# EAGLE library part DC/DC_ISOLATED_RC_TRIM (library Public)
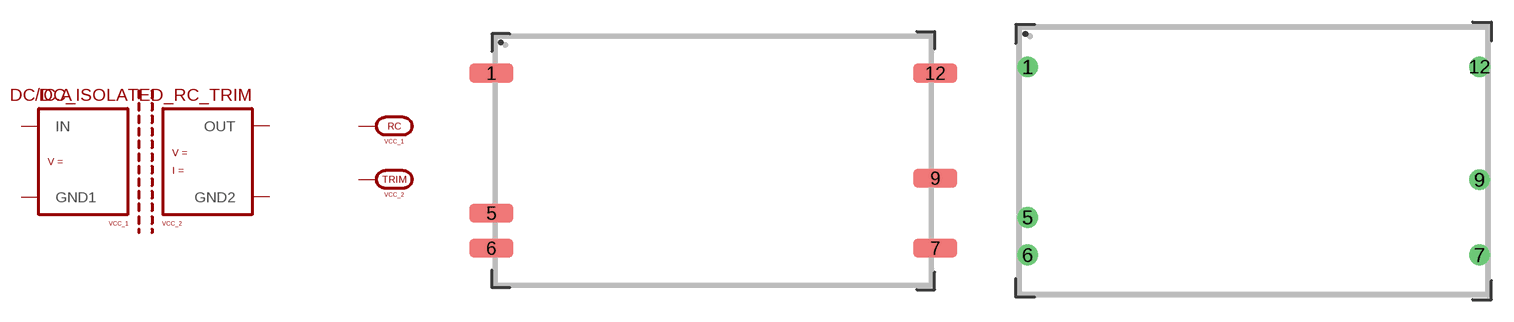
[diagram p201: symbol with the pads of SUS6XXXXB; footprints SUS6XXXXB, SUS6XXXXC]

Designator prefix IC; gates .A=DC/DC_ISOLATED .RC=PIN_RC .TRIM=PIN_TRIM

## DC/DC_ISOLATED_RC_TRIM(SUS6XXXXB)  [SUS6XXXXB]
1  .A:IN
5  .RC:RC
6  .A:GND1
7  .A:GND2
9  .TRIM:TRIM
12  .A:OUT

## DC/DC_ISOLATED_RC_TRIM(SUS6XXXXC)  [SUS6XXXXC]
Pads as for SUS6XXXXB

## Footprint SUS6XXXXB (pad centres in mm)
smd 3.2 x 1.4: 1 -16.09,6.35; 5 -16.09,-3.81; 6 -16.09,-6.35; 7 16.09,-6.35; 9 16.09,-1.27; 12 16.09,6.35

## Footprint SUS6XXXXC (pad centres in mm)
drill 0.9: 1 -15.24,6.35; 5 -15.24,-3.81; 6 -15.24,-6.35; 7 15.24,-6.35; 9 15.24,-1.27; 12 15.24,6.35